# EAGLE library part LM2576 (library farnell-parts)
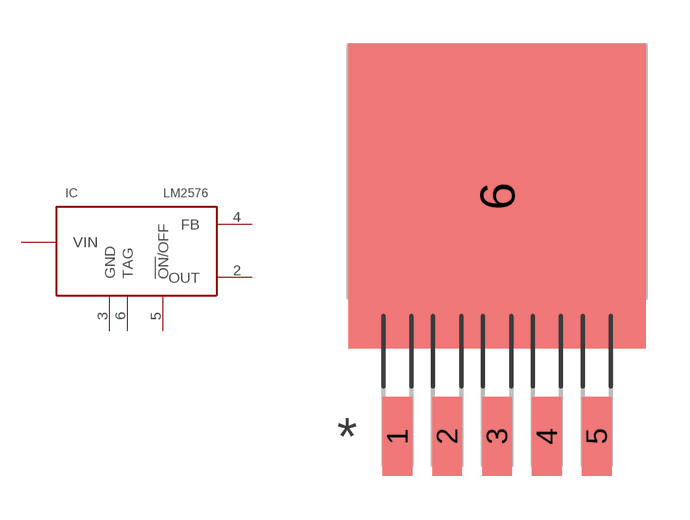
[diagram p3: symbol with the pads of TO263; footprint TO263]

Designator prefix IC

## LM2576  [TO263]
1  VIN  pwr
2  OUT  out
3  GND  pwr
4  FB  pas
5  !ON!/OFF  in
6  TAG  pwr

## Footprint TO263 (pad centres in mm)
smd 1.016 x 2.692: 1 -3.404,-9.042; 2 -1.702,-9.042; 3 0,-9.042; 4 1.702,-9.042; 5 3.404,-9.042
smd 10.16 x 10.41: 6 0,-0.848